# Altium integrated library e.IntLib: 34 symbols
Pins are listed as number, name and electrical type; pins without a type are passive.

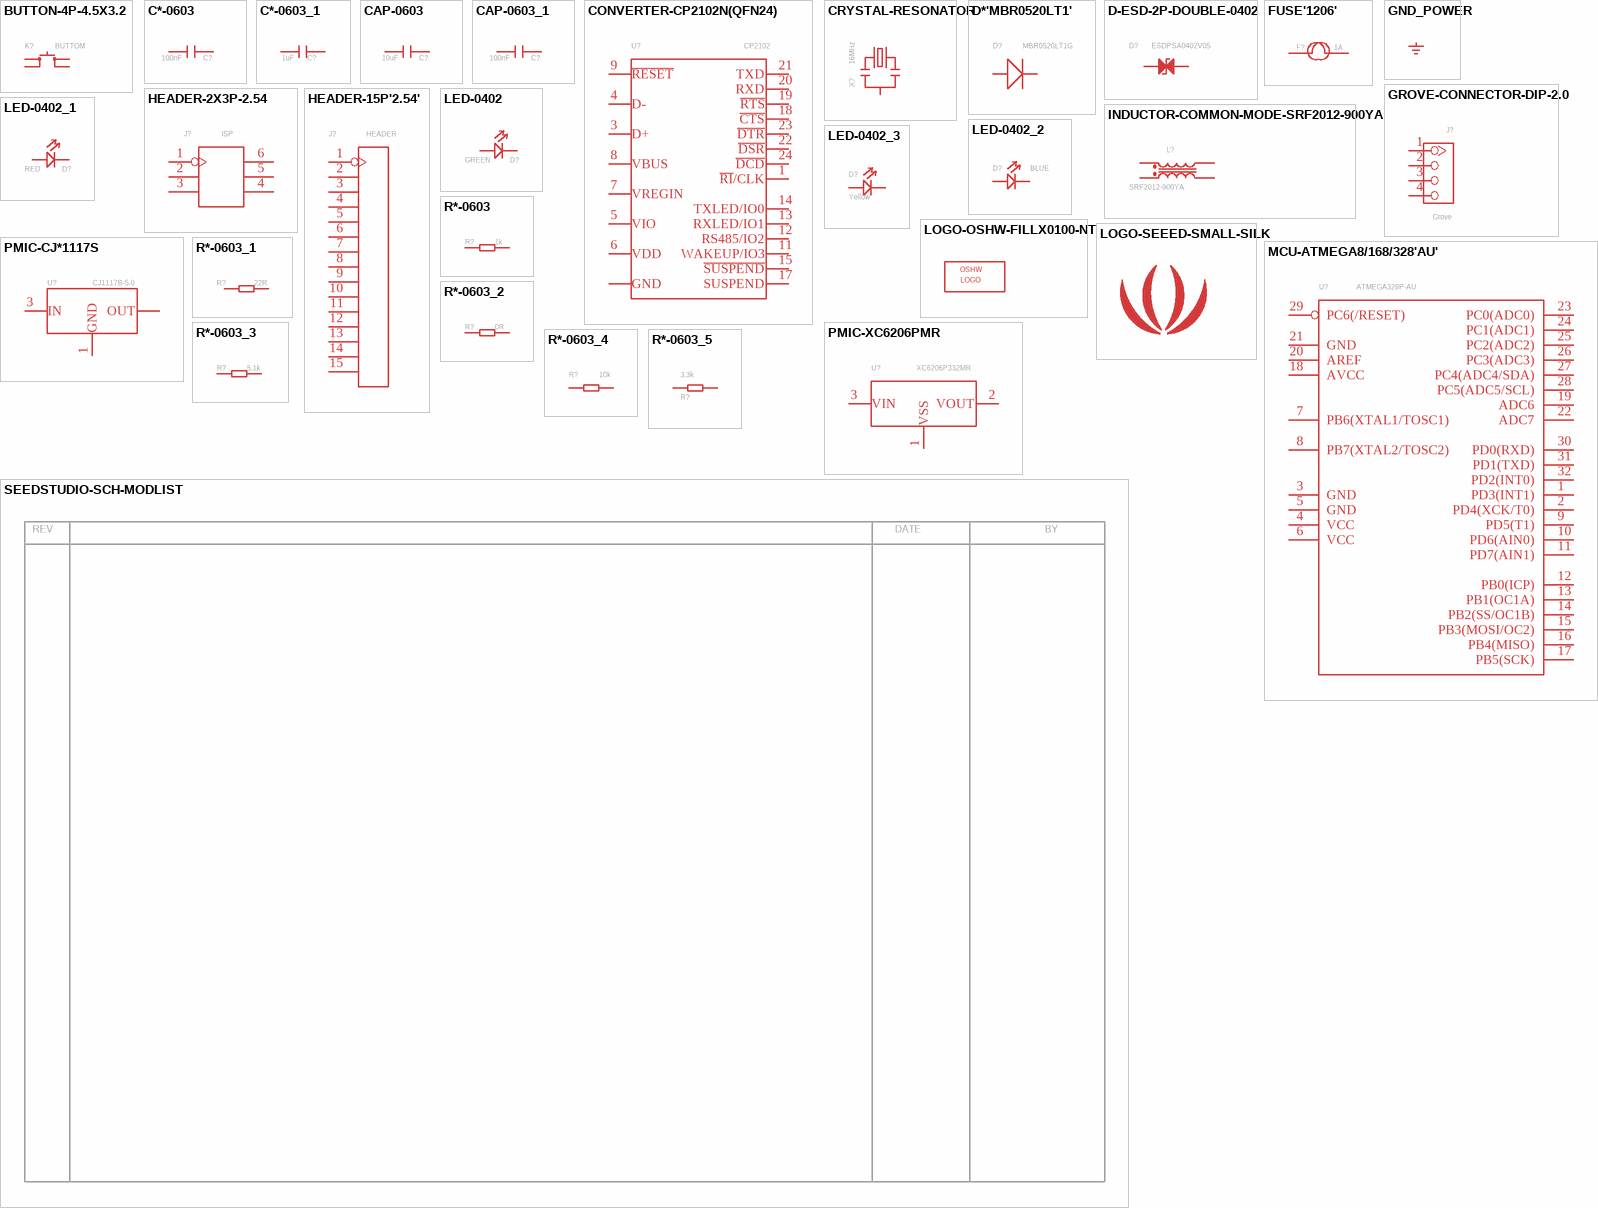
[diagram p0: symbols BUTTON-4P-4.5X3.2 to SEEDSTUDIO-SCH-MODLIST]

## BUTTON-4P-4.5X3.2
designator K?, comment BUTTOM
GateName_1: G$1; SymbolName_1: BOTTON-4P; DeviceName: -4.5X3.2; DeviceSetName: BUTTON-4P; LibraryName: Switch
footprint SW4P-SMD-4.5X3.2X2.5MM
pins: 1 A0, 2 A1, 3 B0, 4 B1

## C*-0603
designator C?, comment 100nF
Ceramic Capacitors; GateName_1: C; DeviceName: -0603; DeviceSetName: C*; SymbolName_1: C; LibraryName: Discrete-small
footprint C0603
pins: 1, 2

## C*-0603_1
designator C?, comment 1uF
Ceramic Capacitors; GateName_1: C; DeviceName: -0603; DeviceSetName: C*; SymbolName_1: C; LibraryName: Discrete-small
footprint C0603
pins: 1, 2

## CAP-0603
designator C?, comment 10uF
Ceramic Capacitors; GateName_1: C; DeviceName: -0603; DeviceSetName: CAP; SymbolName_1: C; LibraryName: Discrete-new
footprint C0603
pins: 1, 2

## CAP-0603_1
designator C?, comment 100nF
Ceramic Capacitors; GateName_1: C; DeviceName: -0603; DeviceSetName: CAP; SymbolName_1: C; LibraryName: Discrete-new
footprint C0603
pins: 1, 2

## CONVERTER-CP2102N(QFN24)
designator U?, comment CP2102
GateName_1: G$1; SymbolName_1: CONVERTER-CP2102N(QFN24); LibraryName: IC-new; DeviceSetName: CONVERTER-CP2102N(QFN24)
footprint QFN24G-0.5-4X4MM
pins: 1 ~{RI}/CLK, 2 PAD GND, 3 D+, 4 D-, 5 VIO, 6 VDD, 7 VREGIN, 8 VBUS, 9 ~{RESET}, 11 WAKEUP/IO3, 12 RS485/IO2, 13 RXLED/IO1, 14 TXLED/IO0, 15 ~{SUSPEND}, 17 SUSPEND, 18 ~{CTS}, 19 ~{RTS}, 20 RXD, 21 TXD, 22 ~{DSR}, 23 ~{DTR}, 24 ~{DCD}

## CRYSTAL-RESONATOR
designator X?, comment 16MHz
ResonatorSmall SMD resonator. This is the itty bitty 10/20MHz resonators with built in caps. CSTCE10M0G55 and CSTCE20M0V53. Footprint has been reviewed closely but hasn't been tested yet.; GateName_1: G$1; SymbolName_1: CRYSTAL-RESONATOR; LibraryName: Discrete-new; DeviceSetName: CRYSTAL-RESONATOR
footprint RESONATOR3-SMD-3.6X1.3X0.8MM
pins: 1, 2, 3

## D*'MBR0520LT1'
designator D?, comment MBR0520LT1G
GateName_1: D; SymbolName_1: DIODE; DeviceName: 'MBR0520LT1'; DeviceSetName: D*; LibraryName: Discrete-smallsmall
footprint SOD123-2.7X1.6
pins: 1 +, 2 -

## D-ESD-2P-DOUBLE-0402
designator D?, comment ESDPSA0402V05
GateName_1: G$1; SymbolName_1: D-ESD-2P-DOUBLE; DeviceName: -0402; LibraryName: Discrete-new; DeviceSetName: D-ESD-2P-DOUBLE
footprint ESD-0402
pins: 1, 2

## FUSE'1206'
designator F?, comment 1A
GateName_1: F; SymbolName_1: FUSE; DeviceName: '1206'; LibraryName: Discrete-new; DeviceSetName: FUSE
footprint F1206
pins: 1, 2

## GND_POWER
designator G?  (value not drawn)
GateName_1: G$1; SymbolName_1: GND_POWER; LibraryName: Power or GND; DeviceSetName: GND_POWER
pins: ?1 GND

## GROVE-CONNECTOR-DIP-2.0
designator J?, comment Grove
4P-2.0:320110033;4P-2.0-90D:320110034; GateName_1: G$1; SymbolName_1: GROVE-CONNECTOR-DIP; DeviceName: -2.0; LibraryName: Connector-new; DeviceSetName: GROVE-CONNECTOR-DIP
footprint HW4-2.0
pins: 1, 2, 3, 4

## HEADER-2X3P-2.54
designator J?, comment ISP
GateName_1: J; SymbolName_1: HEADER-2X3P; DeviceName: -2.54; LibraryName: Connector-new; DeviceSetName: HEADER-2X3P
footprint H2X3-2.54
pins: 1, 2, 3, 4, 5, 6

## HEADER-15P'2.54'
designator J?, comment HEADER
Header 15Standard 15-pin 0.1" header. Use with straight break away headers (SKU : PRT-00116), right angle break away headers (PRT-00553), swiss pins (PRT-00743), machine pins (PRT-00117), and female headers (PRT-00115).; GateName_1: G$1; SymbolName_1: HEADER-15P; DeviceName: '2.54'; LibraryName: Connector-new; DeviceSetName: HEADER-15P
footprint H15-2.54
pins: 1, 2, 3, 4, 5, 6, 7, 8, 9, 10, 11, 12, 13, 14, 15

## INDUCTOR-COMMON-MODE-SRF2012-900YA
designator L?, comment SRF2012-900YA
GateName_1: G$1; SymbolName_1: INDUCTOR-COMMON-MODE; DeviceName: -SRF2012-900YA; LibraryName: Discrete-new; DeviceSetName: INDUCTOR-COMMON-MODE
footprint INT4-0.85-2X1.25X1.2MM
pins: 1, 2, 3, 4

## LED-0402
designator D?, comment GREEN
GateName_1: LED; DeviceName: -0402; SymbolName_1: LED; LibraryName: Discrete-new; DeviceSetName: LED
footprint LED-0402
pins: +, -

## LED-0402_1
designator D?, comment RED
GateName_1: LED; DeviceName: -0402; SymbolName_1: LED; LibraryName: Discrete-new; DeviceSetName: LED
footprint LED-0402
pins: +, -

## LED-0402_2
designator D?, comment BLUE
GateName_1: LED; DeviceName: -0402; SymbolName_1: LED; LibraryName: Discrete-new; DeviceSetName: LED
footprint LED-0402
pins: +, -

## LED-0402_3
designator D?, comment Yellow
GateName_1: LED; DeviceName: -0402; SymbolName_1: LED; LibraryName: Discrete-new; DeviceSetName: LED
footprint LED-0402
pins: +, -

## LOGO-OSHW-FILLX0100-NT
designator LOGO?  (value not drawn)
PARTNO: DNP; GateName_1: G$1; SymbolName_1: OSHW_LOGO; DeviceName: X0100-NT; LibraryName: logo; DeviceSetName: LOGO-OSHW-FILL; OSHW: OSHW; LOGO: LOGO
footprint OSHW_FILLX100_NOTEXT

## LOGO-SEEED-SMALL-SILK
designator U$?  (value not drawn)
PARTNO: DNP; GateName_1: G$1; SymbolName_1: LOGO-SEEED; DeviceName: -SMALL-SILK; LibraryName: logo; DeviceSetName: LOGO-SEEED
footprint SEEED-SILK--TNAME-160*153MIL

## MCU-ATMEGA8/168/328'AU'
designator U?, comment ATMEGA328P-AU
GateName_1: G$1; SymbolName_1: MCU-ATMEGA8/168/328; DeviceName: 'AU'; LibraryName: IC-new; DeviceSetName: MCU-ATMEGA8/168/328
footprint TQFP32-0.8-7X7MM
pins: 1 PD3(INT1), 2 PD4(XCK/T0), 3 GND, 4 VCC, 5 GND, 6 VCC, 7 PB6(XTAL1/TOSC1), 8 PB7(XTAL2/TOSC2), 9 PD5(T1), 10 PD6(AIN0), 11 PD7(AIN1), 12 PB0(ICP), 13 PB1(OC1A), 14 PB2(SS/OC1B), 15 PB3(MOSI/OC2), 16 PB4(MISO), 17 PB5(SCK), 18 AVCC, 19 ADC6, 20 AREF, 21 GND, 22 ADC7, 23 PC0(ADC0), 24 PC1(ADC1), 25 PC2(ADC2), 26 PC3(ADC3), 27 PC4(ADC4/SDA), 28 PC5(ADC5/SCL), 29 PC6(/RESET), 30 PD0(RXD), 31 PD1(TXD), 32 PD2(INT0)

## PMIC-CJ*1117S
designator U?, comment CJ1117B-5.0
Low Drop Fixed And Adjustable Positive Voltage Regulators http://www.datasheetcatalog.org/datasheet/SGSThomsonMicroelectronics/mXuqtqv.pdf; GateName_1: G$1; SymbolName_1: PMIC-CJ*1117; DeviceName: S; LibraryName: IC-new; DeviceSetName: PMIC-CJ*1117
footprint SOT-223
pins: 1 GND, 2 TER OUT, 3 IN

## PMIC-XC6206PMR
designator U?, comment XC6206P332MR
LOW ESR Cap.Compatible Positive Voltage Regulators; GateName_1: G$1; SymbolName_1: PMIC-XC6206P; DeviceName: MR; LibraryName: IC-new; DeviceSetName: PMIC-XC6206P
footprint SOT-23
pins: 1 VSS, 2 VOUT, 3 VIN

## R*-0603
designator R?, comment 1k
GateName_1: R; DeviceName: -0603; DeviceSetName: R*; SymbolName_1: R; LibraryName: Discrete-small
footprint R0603
pins: 1, 2

## R*-0603_1
designator R?, comment 22R
GateName_1: R; DeviceName: -0603; DeviceSetName: R*; SymbolName_1: R; LibraryName: Discrete-small
footprint R0603
pins: 1, 2

## R*-0603_2
designator R?, comment 0R
GateName_1: R; DeviceName: -0603; DeviceSetName: R*; SymbolName_1: R; LibraryName: Discrete-small
footprint R0603
pins: 1, 2

## R*-0603_3
designator R?, comment 5.1k
GateName_1: R; DeviceName: -0603; DeviceSetName: R*; SymbolName_1: R; LibraryName: Discrete-small
footprint R0603
pins: 1, 2

## R*-0603_4
designator R?, comment 10k
GateName_1: R; DeviceName: -0603; DeviceSetName: R*; SymbolName_1: R; LibraryName: Discrete-small
footprint R0603
pins: 1, 2

## R*-0603_5
designator R?, comment 3.3k
GateName_1: R; DeviceName: -0603; DeviceSetName: R*; SymbolName_1: R; LibraryName: Discrete-small
footprint R0603
pins: 1, 2

## SEEDSTUDIO-SCH-MODLIST
designator U$?  (value not drawn)
GateName_1: G$1; SymbolName_1: SEEDSTUDIO-SCH-MODLIST; LibraryName: moudle-new; DeviceSetName: SEEDSTUDIO-SCH-MODLIST; REV: REV; DATE: DATE; BY: BY

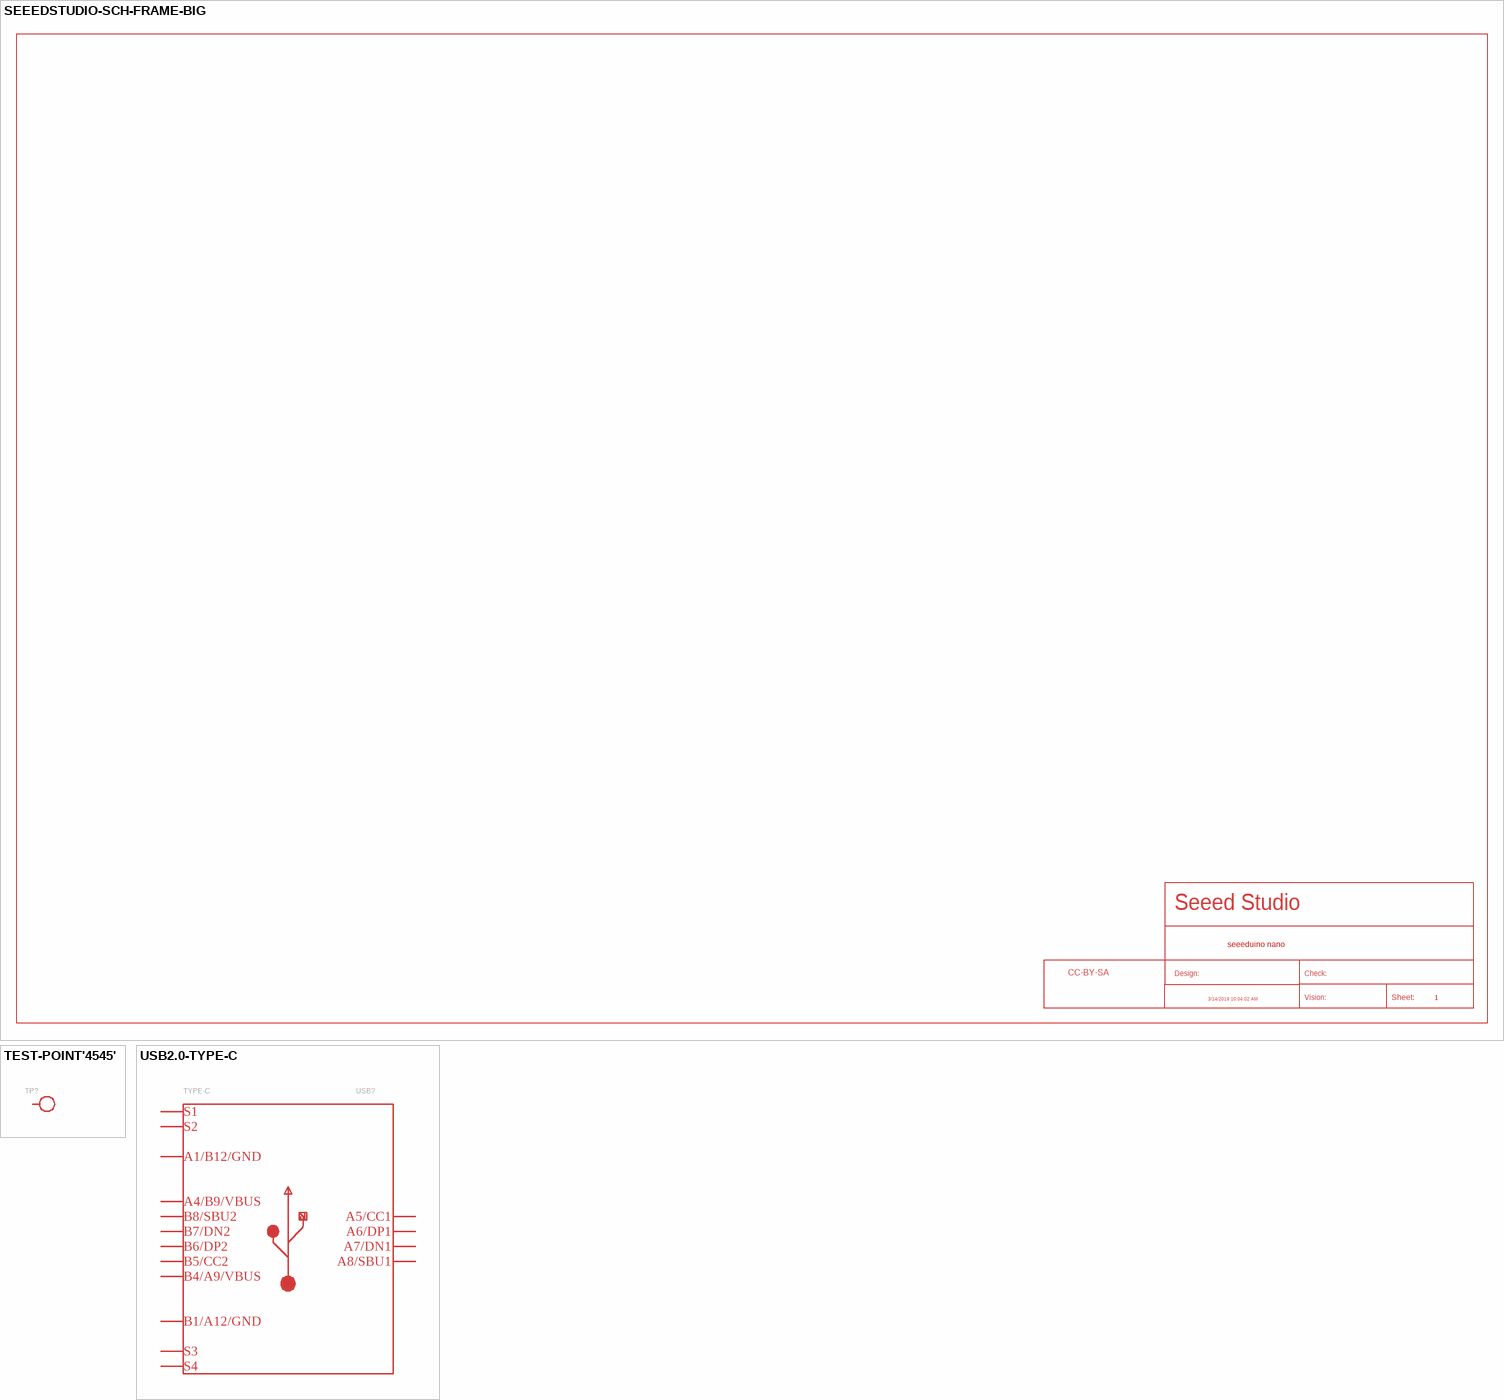
[diagram p1: symbols SEEEDSTUDIO-SCH-FRAME-BIG to USB2.0-TYPE-C]

## SEEEDSTUDIO-SCH-FRAME-BIG
designator FR?  DRAWING_NAME: seeeduino nano  SHEET: 1  Sheet: Sheet:  SeeedStudio: Seeed Studio  Design: Design:  Check: Check:  Vision: Vision:  LAST_DATE_TIME: 3/14/2019 10:04:02 AM  (hidden comment: SEEEDSTUDIO-SCH-FRAME-BIG)
GateName_1: G$1; SymbolName_1: SEEEDSTUDIO-SCH-FRAME-BIG; LibraryName: moudle-new; DeviceSetName: SEEEDSTUDIO-SCH-FRAME-BIG; CC-BY-SA: CC-BY-SA

## TEST-POINT'4545'
designator TP?, comment TEST  (value not drawn)
PARTNO: DNP; GateName_1: TP; SymbolName_1: TEST-POINT; DeviceName: '4545'; LibraryName: Discrete-new; DeviceSetName: TEST-POINT
footprint TP-D45MIL
pins: T

## USB2.0-TYPE-C
designator USB?, comment TYPE-C
GateName_1: USB; SymbolName_1: USB2.0-TYPE-C; LibraryName: Connector-new; DeviceSetName: USB2.0-TYPE-C
footprint USB2.0-TYPE-C
pins: A1_B12 A1/B12/GND, A4_B9 A4/B9/VBUS, A5 A5/CC1, A6 A6/DP1, A7 A7/DN1, A8 A8/SBU1, B1_A12 B1/A12/GND, B4_A9 B4/A9/VBUS, B5 B5/CC2, B6 B6/DP2, B7 B7/DN2, B8 B8/SBU2, S1 S5 S1, S2 S6 S2, S3, S4